# Altium footprint library LV1.PcbLib: 60 footprints (part 4 of 4)
Each footprint in its own frame and in the unit in brackets; x right, y up, seen from the top. Pads: shape width x height; smd on the part's side, far side on the other; paste and mask are expansions set on the pad; w line width, h text height; cw(c..) or ccw(c..) is an arc to the next point about the centre after c.
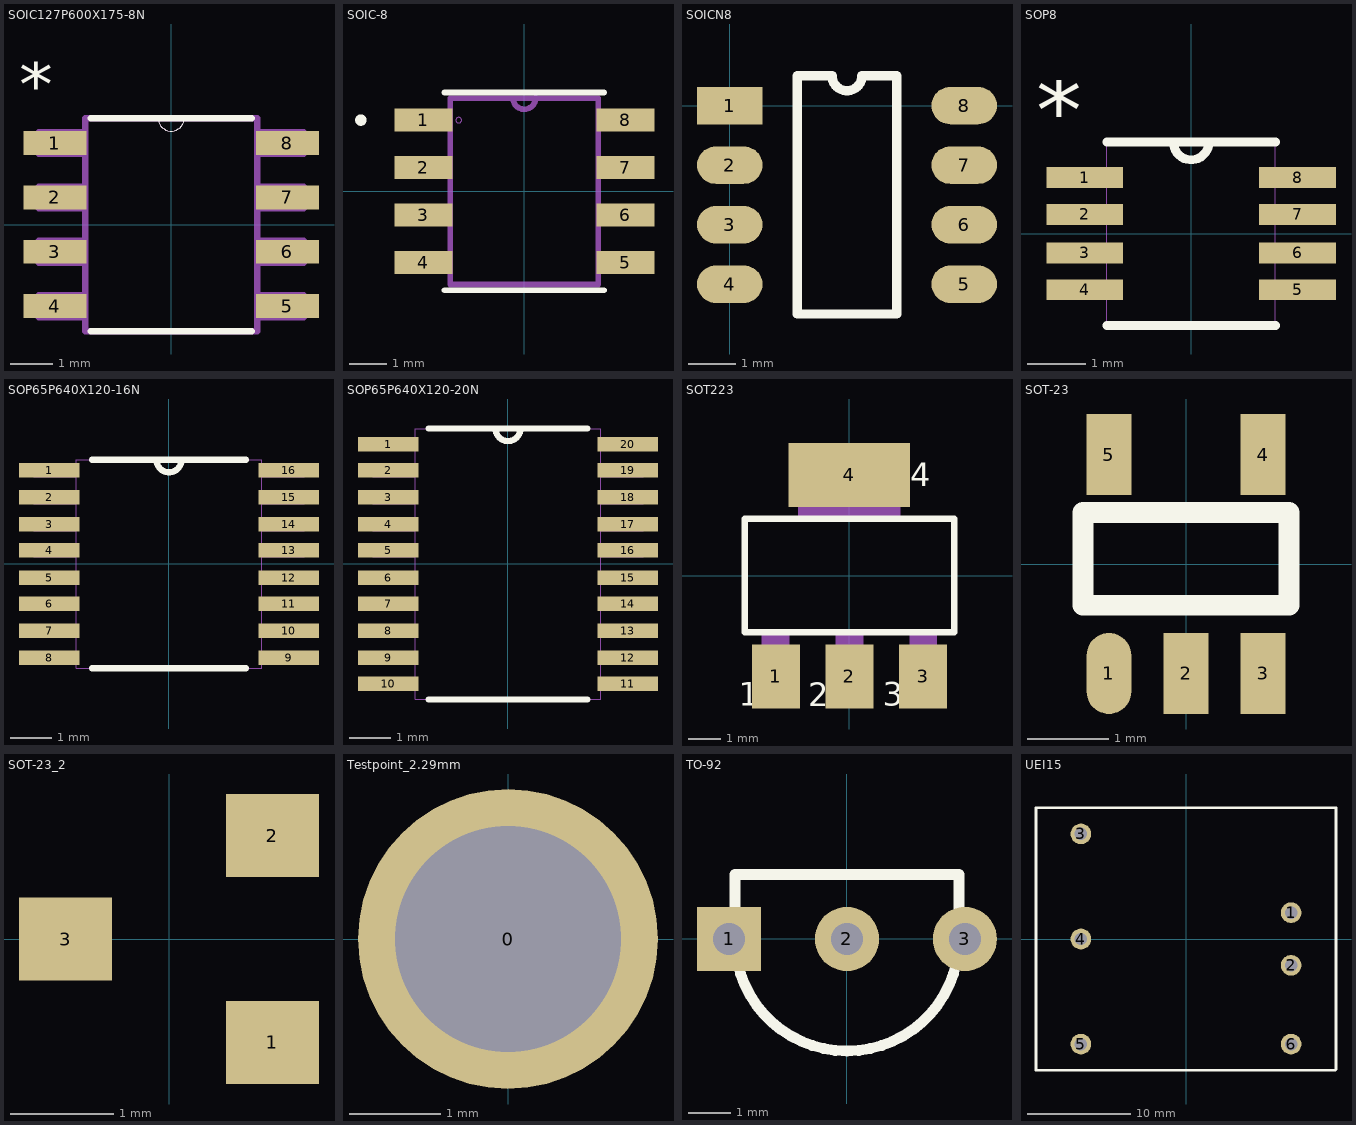
[diagram p3: the footprints below, top view; thin cyan lines are the x and y axes]

## SOIC127P600X175-8N [mil]
pads (8):
  rect 58x22 smd: 1(-107,75) 2(-107,25) 3(-107,-25) 4(-107,-75) 5(107,-75) 6(107,-25) 7(107,25) 8(107,75)
Top Overlay:
  lines w0: -12,98 ccw(c0,98) 12,98
  lines w6: -74,-98 74,-98 ; -74,98 -12,98 12,98 74,98
  text "*" at -140,92 h77.5
Mechanical 16:
  lines w0: -12,98 ccw(c0,98) 12,98
  lines w6: -122,-85 -79,-85 -79,-65 -122,-65 -122,-85 ; -122,-35 -79,-35 -79,-15 -122,-15 -122,-35 ; -122,15 -79,15 -79,35 -122,35 -122,15 ; -122,65 -79,65 -79,85 -122,85 -122,65 ; -79,-98 -79,98 -12,98 12,98 79,98 79,-98 -79,-98 ; 79,-85 122,-85 122,-65 79,-65 79,-85 ; 79,-35 122,-35 122,-15 79,-15 79,-35 ; 79,15 122,15 122,35 79,35 79,15 ; 79,65 122,65 122,85 79,85 79,65
  text "*" at -140,92 h77.5

## SOIC-8 [mil]
pads (8):
  rect 61x24 smd paste-1000 mask-1000: 1(-106.3,75) 2(-106.3,25) 3(-106.3,-25) 4(-106.3,-75) 5(106.3,-75) 6(106.3,-25) 7(106.3,25) 8(106.3,75)
Top Overlay:
  lines w6: -84,-104 84,-104 ; -84,104 84,104 ; -175,75 ccw(c-172,75) -169,75 ccw(c-172,75) -175,75
Top Paste:
  region: -136.8,63 -75.8,63 -75.8,87 -136.8,87
  region: -136.8,13 -75.8,13 -75.8,37 -136.8,37
  region: -136.8,-37 -75.8,-37 -75.8,-13 -136.8,-13
  region: -136.8,-87 -75.8,-87 -75.8,-63 -136.8,-63
  region: 75.8,-87 136.8,-87 136.8,-63 75.8,-63
  region: 75.8,-37 136.8,-37 136.8,-13 75.8,-13
  region: 75.8,13 136.8,13 136.8,37 75.8,37
  region: 75.8,63 136.8,63 136.8,87 75.8,87
Top Solder:
  region: -140.74,59.06 -71.86,59.06 -71.86,90.94 -140.74,90.94
  region: -140.74,9.06 -71.86,9.06 -71.86,40.94 -140.74,40.94
  region: -140.74,-40.94 -71.86,-40.94 -71.86,-9.06 -140.74,-9.06
  region: -140.74,-90.94 -71.86,-90.94 -71.86,-59.06 -140.74,-59.06
  region: 71.86,-90.94 140.74,-90.94 140.74,-59.06 71.86,-59.06
  region: 71.86,-40.94 140.74,-40.94 140.74,-9.06 71.86,-9.06
  region: 71.86,9.06 140.74,9.06 140.74,40.94 71.86,40.94
  region: 71.86,59.06 140.74,59.06 140.74,90.94 71.86,90.94
Mechanical 1:
  lines w0: -72,75 ccw(c-69,75) -66,75 ccw(c-69,75) -72,75
  lines w6: -12,98.08 ccw(c0,98.5) 12,98.92 ; -78,-98 78,-98 78,98 -12,98 -78,98 -78,-98

## SOICN8 [mm]
pads (8):
  rect 1.4x0.8 smd: 1(0,0)
  oval 1.4x0.8 smd: 2(0,-1.27) 3(0,-2.54) 4(0,-3.81) 5(5,-3.81) 6(5,-2.54) 7(5,-1.27) 8(5,0)
Top Overlay:
  lines w0.2: 1.435,-4.445 1.435,0.635 2.183,0.635 ccw(c2.5,0.635) 2.818,0.635 3.565,0.635 3.565,-4.445 1.435,-4.445
3D body: height 1, standoff 0, extent 0.762,-4.699 4.318,0.889
3D body: height 0.5, standoff 0, extent -0.381,-0.254 0.762,0.254
3D body: height 0.5, standoff 0, extent -0.381,-1.524 0.762,-1.016
3D body: height 0.5, standoff 0, extent -0.381,-2.794 0.762,-2.286
3D body: height 0.5, standoff 0, extent -0.381,-4.064 0.762,-3.556
3D body: height 0.5, standoff 0, extent 4.318,-4.064 5.461,-3.556
3D body: height 0.5, standoff 0, extent 4.318,-2.794 5.461,-2.286
3D body: height 0.5, standoff 0, extent 4.318,-1.524 5.461,-1.016
3D body: height 0.5, standoff 0, extent 4.318,-0.254 5.461,0.254

## SOP8 [mil]
pads (8):
  rect 52x14 smd: 1(-72,38) 2(-72,13) 3(-72,-13) 4(-72,-38) 5(72,-38) 6(72,-13) 7(72,13) 8(72,38)
Top Overlay:
  lines w6: -57,-62 57,-62 ; -57,62 -12,62 ; 57,62 12,62 ; -12,62 ccw(c0,62) 12,62 ; -12,62 12,62
  text "*" at -105,47 h77.5
Mechanical 16:
  lines w0: -12,62 ccw(c0,62) 12,62 ; -12,62 -57,62 -57,-62 57,-62 57,62 12,62 ; -12,62 12,62 ; -84,-44 -57,-44 -57,-32 -84,-32 -84,-44 ; -84,-19 -57,-19 -57,-7 -84,-7 -84,-19 ; -84,7 -57,7 -57,19 -84,19 -84,7 ; -84,32 -57,32 -57,44 -84,44 -84,32 ; 57,-44 84,-44 84,-32 57,-32 57,-44 ; 57,-19 84,-19 84,-7 57,-7 57,-19 ; 57,7 84,7 84,19 57,19 57,7 ; 57,32 84,32 84,44 57,44 57,32
  text "*" at -105,47 h77.5

## SOP65P640X120-16N [mil]
pads (16):
  rect 58x14 smd: 1(-115,90) 2(-115,64) 3(-115,38) 4(-115,13) 5(-115,-13) 6(-115,-38) 7(-115,-64) 8(-115,-90) 9(115,-90) 10(115,-64) 11(115,-38) 12(115,-13) 13(115,13) 14(115,38) 15(115,64) 16(115,90)
Top Overlay:
  lines w6: -74,-100 74,-100 ; -74,100 -12,100 ; 74,100 12,100 ; -12,100 ccw(c0,100) 12,100 ; -12,100 12,100
Mechanical 16:
  lines w0: -12,100 ccw(c0,100) 12,100 ; -12,100 12,100 ; -12,100 -89,100 -89,-100 89,-100 89,100 12,100 ; -130,-96 -130,-84 -89,-84 -89,-96 -130,-96 ; -130,-70 -130,-58 -89,-58 -89,-70 -130,-70 ; -130,-44 -130,-32 -89,-32 -89,-44 -130,-44 ; -130,-19 -130,-7 -89,-7 -89,-19 -130,-19 ; -130,7 -130,19 -89,19 -89,7 -130,7 ; -130,32 -130,44 -89,44 -89,32 -130,32 ; -130,58 -130,70 -89,70 -89,58 -130,58 ; -130,84 -130,96 -89,96 -89,84 -130,84 ; 89,-96 89,-84 130,-84 130,-96 89,-96 ; 89,-70 89,-58 130,-58 130,-70 89,-70 ; 89,-44 89,-32 130,-32 130,-44 89,-44 ; 89,-19 89,-7 130,-7 130,-19 89,-19 ; 89,7 89,19 130,19 130,7 89,7 ; 89,32 89,44 130,44 130,32 89,32 ; 89,58 89,70 130,70 130,58 89,58 ; 89,84 89,96 130,96 130,84 89,84
3D body: height 19.68, standoff 0, extent -94.49,-102.36 90.55,98.43

## SOP65P640X120-20N [mil]
pads (20):
  rect 58x14 smd: 1(-115,115) 2(-115,90) 3(-115,64) 4(-115,38) 5(-115,13) 6(-115,-13) 7(-115,-38) 8(-115,-64) 9(-115,-90) 10(-115,-115) 11(115,-115) 12(115,-90) 13(115,-64) 14(115,-38) 15(115,-13) 16(115,13) 17(115,38) 18(115,64) 19(115,90) 20(115,115)
Top Overlay:
  lines w6: -76,-130 76,-130 ; -76,130 -12,130 ; 76,130 12,130 ; -12,130 ccw(c0,130) 12,130 ; -12,130 12,130
Mechanical 16:
  lines w0: -12,130 ccw(c0,130) 12,130 ; -12,130 -89,130 -89,-130 89,-130 89,130 12,130 ; -12,130 12,130 ; -130,-121 -89,-121 -89,-109 -130,-109 -130,-121 ; -130,-95 -89,-95 -89,-84 -130,-84 -130,-95 ; -130,-70 -89,-70 -89,-58 -130,-58 -130,-70 ; -130,-44 -89,-44 -89,-32 -130,-32 -130,-44 ; -130,-19 -89,-19 -89,-7 -130,-7 -130,-19 ; -130,7 -89,7 -89,19 -130,19 -130,7 ; -130,32 -89,32 -89,44 -130,44 -130,32 ; -130,58 -89,58 -89,70 -130,70 -130,58 ; -130,84 -89,84 -89,95 -130,95 -130,84 ; -130,109 -89,109 -89,121 -130,121 -130,109 ; 89,-121 130,-121 130,-109 89,-109 89,-121 ; 89,-95 130,-95 130,-84 89,-84 89,-95 ; 89,-70 130,-70 130,-58 89,-58 89,-70 ; 89,-44 130,-44 130,-32 89,-32 89,-44 ; 89,-19 130,-19 130,-7 89,-7 89,-19 ; 89,7 130,7 130,19 89,19 89,7 ; 89,32 130,32 130,44 89,44 89,32 ; 89,58 130,58 130,70 89,70 89,58 ; 89,84 130,84 130,95 89,95 89,84 ; 89,109 130,109 130,121 89,121 89,109
3D body: height 19.68, standoff 0, extent -94.49,-129.92 94.49,129.92

## SOT223 [mm]
height 8.6
pads (4):
  rect 1.5x2 smd: 1(-2.3,-3.15) 2(0,-3.15) 3(2.3,-3.15)
  rect 3.8x2 smd: 4(0,3.15)
Top Overlay:
  lines w0.203: -3.277,-1.778 -3.277,1.778 3.277,1.778 3.277,-1.778 -3.277,-1.778
  text "2" at -1.291,-4.327 h1.26
  text "1" at -3.453,-4.318 h1.26
  text "4" at 1.905,2.54 h1.26
  text "3" at 1.041,-4.318 h1.26
Mechanical 16:
  rectangle: 1.88,-3.658 2.743,-1.803
  rectangle: -2.743,-3.658 -1.88,-1.803
  rectangle: -0.432,-3.658 0.432,-1.803
  rectangle: -1.6,1.803 1.6,3.658
  rectangle: 1.88,-3.658 2.743,-1.803
  rectangle: -2.743,-3.658 -1.88,-1.803
  rectangle: -0.432,-3.658 0.432,-1.803
  rectangle: -1.6,1.803 1.6,3.658
3D body: height 0.1, standoff 0, extent -1.9,2.1 1.9,4.2
3D body: height 0.1, standoff 0, extent -3.1,-4.2 -1.5,-2.1
3D body: height 0.1, standoff 0, extent -0.8,-4.2 0.8,-2.1
3D body: height 0.1, standoff 0, extent 1.5,-4.2 3.1,-2.1
3D body: height 1, standoff 0, extent -3.3,-2.1 3.3,2.2

## SOT-23 [mm]
height 8.6
pads (5):
  oval 0.55x1 smd: 1(-0.95,-1.35)
  rect 0.55x1 smd: 2(0,-1.35) 3(0.95,-1.35) 4(0.95,1.35) 5(-0.95,1.35)
Top Overlay:
  lines w0.254: -1.27,-0.508 1.27,-0.508 1.27,0.635 -1.27,0.635 -1.27,-0.508

## SOT-23_2 [mm]
pads (3):
  rect 0.9x0.8 smd: 1(1,-1) 2(1,1) 3(-1,0)
3D body: height 0.5, standoff 0, extent -0.889,-1.016 1.016,1.143

## Testpoint_2.29mm [mm]
pads (1):
  round 3.3 hole 2.49: 0(0,0)

## TO-92 [mil]
pads (3):
  rect 60x60 hole 30: 1(-110.24,0)
  round 60 hole 30: 2(0,0) 3(110.24,0)
Top Overlay:
  lines w10: -104.72,0 ccw(c0,0) 104.72,0 104.72,60.24 -104.72,60.24 -104.72,0

## UEI15 [mm]
pads (6):
  round 2 hole 1.2: 1(10.16,2.54) 2(10.16,-2.54) 3(-10.16,10.16) 4(-10.16,0) 5(-10.16,-10.16) 6(10.16,-10.16)
Top Overlay:
  lines w0.254: -14.5,-12.7 -14.5,12.7 14.5,12.7 14.5,-12.6 14.4,-12.7 -14.5,-12.7